# Altium footprint library ESC_PCB_0.PcbLib: 16 footprints
Each footprint in its own frame and in the unit in brackets; x right, y up, seen from the top. Pads: shape width x height; smd on the part's side, far side on the other; paste and mask are expansions set on the pad; w line width, h text height; cw(c..) or ccw(c..) is an arc to the next point about the centre after c.
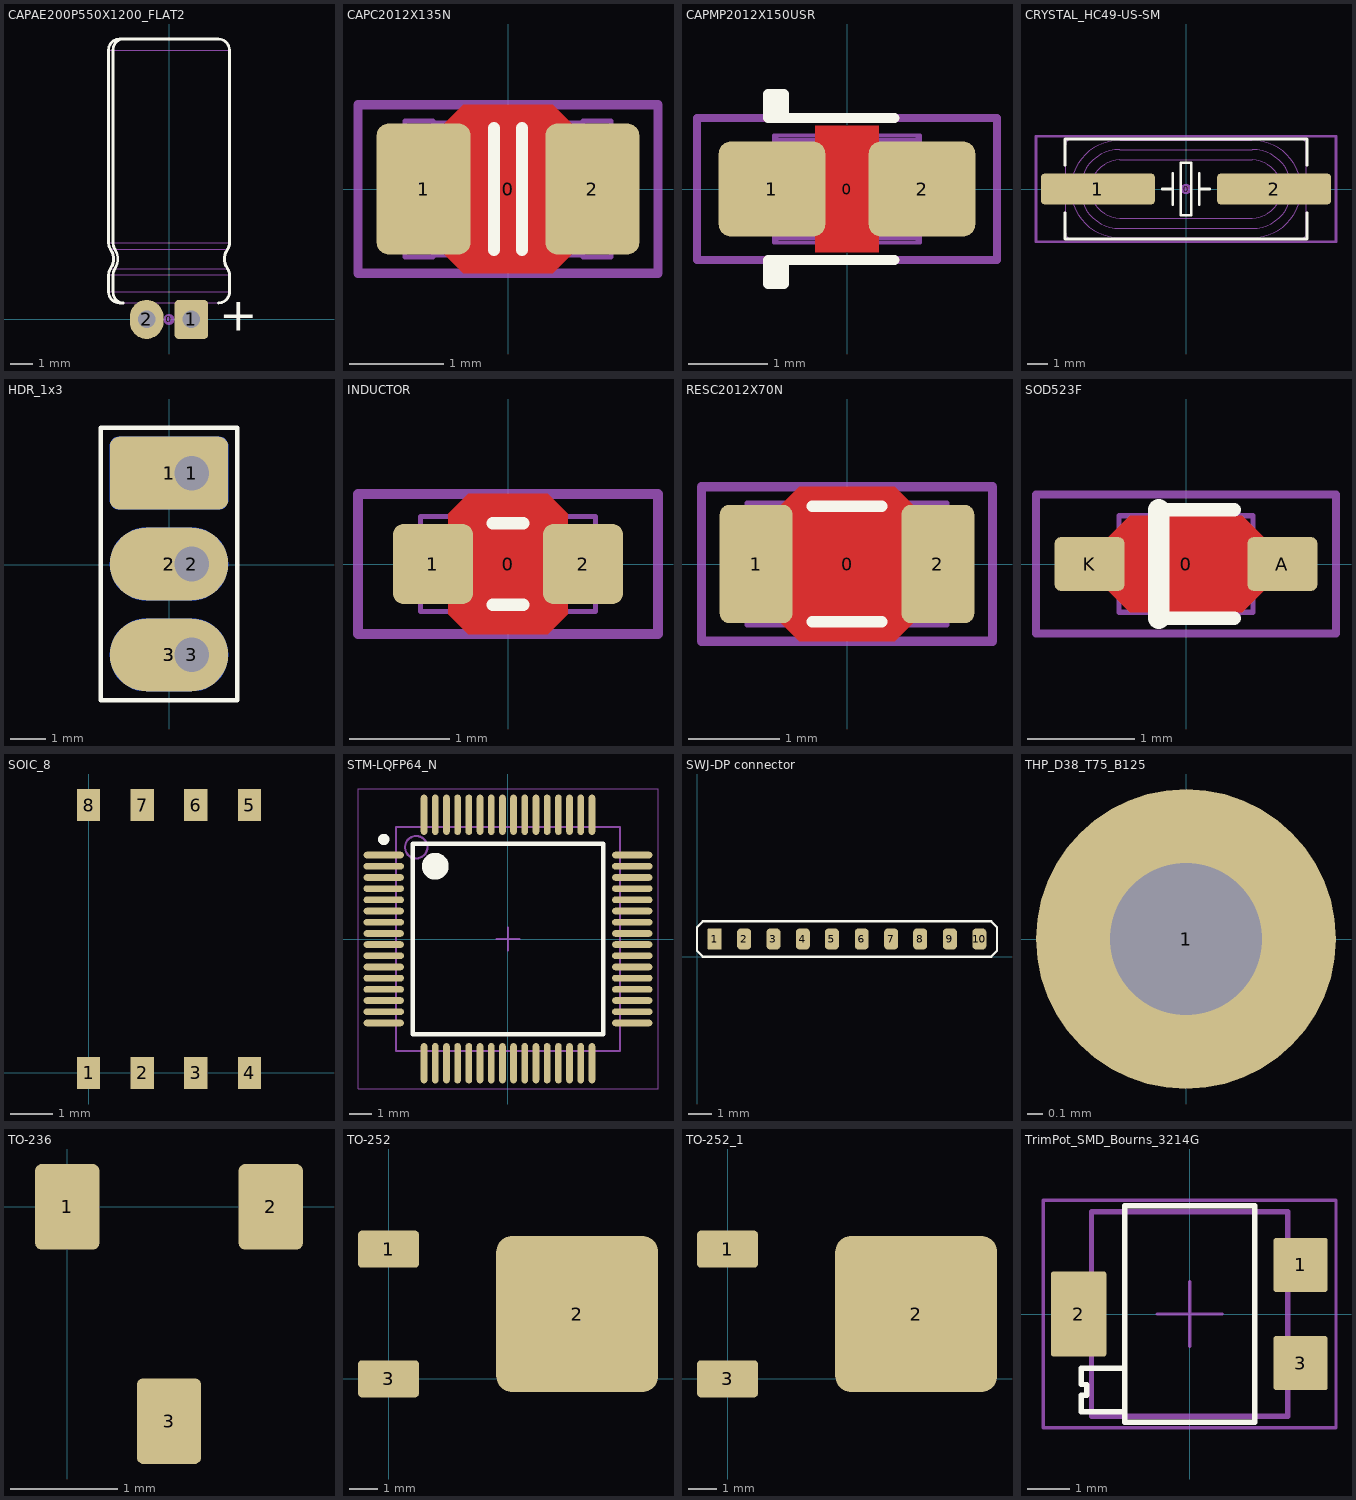
[diagram p0: the footprints below, top view; thin cyan lines are the x and y axes]

## CAPAE200P550X1200_FLAT2 [mil]
pads (3):
  round 20 on Mech15: 0(0,0)
  rrect25% 60x70 hole 31.5: 1(40,0)
  oval 60x70 hole 31.5: 2(-40,0)
Top Overlay:
  lines w5: -82.99,29.57 -88.58,29.57 cw(c-88.58,49.25) -108.27,49.25 -108.27,79.64 cw(c-88.58,79.64) -104.76,90.86 ccw(c-129.92,108.31) -104.76,125.76 cw(c-88.58,136.98) -108.27,136.98 -108.27,482.32 cw(c-88.58,482.32) -88.58,502.01 -82.99,502.01 ; -81.84,29.53 cw(c-81.06,48.53) -100.06,49.25 -100.06,79.64 cw(c-79.2,79.7) -96.81,90.88 ccw(c-124.34,108.31) -96.81,125.74 cw(c-79.2,136.92) -100.06,136.98 -100.06,482.32 cw(c-81.06,483.05) -81.84,502.05 88.58,502.05 cw(c88.58,482.32) 108.31,482.32 108.31,136.98 cw(c88.58,136.98) 104.79,125.74 ccw(c129.92,108.31) 104.79,90.88 cw(c88.58,79.64) 108.31,79.64 108.31,49.25 cw(c88.58,49.25) 88.58,29.53
  text "+" at 90,-20 h60
Mechanical 13:
  lines w1.97: -82.99,29.57 -88.58,29.57 cw(c-88.58,49.25) -108.27,49.25 ; -82.99,502.01 -88.58,502.01 ccw(c-88.58,482.32) -108.27,482.32 ; -49.21,19.68 -29.53,19.68 ; -49.21,29.53 -49.21,0 ccw(c-39.37,0) -29.53,0 -29.53,29.53 ; 29.53,19.68 49.21,19.68 ; 29.53,29.53 29.53,0 ccw(c39.37,0) 49.21,0 49.21,29.53 ; -108.27,49.25 108.31,49.25 ; -108.27,49.25 -108.27,79.64 ; -108.27,79.64 cw(c-88.58,79.64) -104.76,90.86 ; -108.27,79.64 108.31,79.64 ; -108.27,136.98 ccw(c-88.58,136.98) -104.76,125.76 ; -108.27,136.98 108.31,136.98 ; -108.27,136.98 -108.27,482.32 ; -108.27,482.32 108.31,482.32 ; -104.76,90.86 ccw(c-129.92,108.31) -104.76,125.76 ; -104.76,90.86 -96.81,90.88 ; -104.76,125.76 -96.81,125.74 ; -96.81,90.88 ccw(c-124.34,108.31) -96.81,125.74 ; -96.81,90.88 ccw(c-79.2,79.7) -100.06,79.64 -100.06,49.25 ccw(c-81.06,48.53) -81.84,29.53 88.58,29.53 ccw(c88.58,49.25) 108.31,49.25 ; -96.81,90.88 104.79,90.88 ; -96.81,125.74 cw(c-79.2,136.92) -100.06,136.98 -100.06,482.32 cw(c-81.06,483.05) -81.84,502.05 88.58,502.05 cw(c88.58,482.32) 108.31,482.32 ; -96.81,125.74 104.79,125.74 ; 104.79,90.88 cw(c129.92,108.31) 104.79,125.74 ; 104.79,90.88 cw(c88.58,79.64) 108.31,79.64 ; 104.79,125.74 ccw(c88.58,136.98) 108.31,136.98 ; 108.31,49.25 108.31,79.64 ; 108.31,136.98 108.31,482.32
3D body "CAPAE200P550X1200_FLAT2.STEP": height 215.69, standoff -70, extent -107.33,-9.82 107.39,502.05

## CAPC2012X135N [mm]
pads (3):
  round 0.254 on Mech15: 0(0,0)
  rrect25% 1x1.4 smd: 1(-0.9,0) 2(0.9,0)
Top Layer:
  pour cut-out: -0.675,0.7 -0.475,0.9 0.475,0.9 0.675,0.7 0.675,-0.7 0.475,-0.9 -0.475,-0.9 -0.675,-0.7
Top Overlay:
  lines w0.127: -0.15,-0.651 -0.15,0.651 ; 0.15,-0.651 0.15,0.651
Mechanical 13:
  lines w0.05: -0.8,-0.705 0.8,-0.705 ; -0.8,0.705 0.8,0.705 ; -1.1,-0.725 -0.8,-0.725 -0.8,0.725 -1.1,0.725 -1.1,-0.725 ; 0.8,-0.725 0.8,0.725 1.1,0.725 1.1,-0.725 0.8,-0.725
Mechanical 15:
  lines w0.1: -1.6,-0.9 1.6,-0.9 1.6,0.9 -1.6,0.9 -1.6,-0.9
3D body "CAP_0805.STEP": height 1.34, standoff -0.01, extent -1.1,-0.725 1.1,0.725

## CAPMP2012X150USR [mm]
pads (3):
  round 0.254 on Mech15: 0(0,0)
  rrect25% 1.35x1.2 smd: 1(-0.95,0) 2(0.95,0)
Top Layer:
  pour cut-out: -0.4,0.8 0.4,0.8 0.4,-0.8 -0.4,-0.8
Top Overlay:
  lines w0.127: -0.9,-1.2 -0.9,-0.9 ; -0.9,0.9 -0.9,1.2 ; -0.8,-0.9 -0.8,-1.2 -1,-1.2 -1,-0.9 0.6,-0.9 ; -0.8,0.9 -0.8,1.2 -1,1.2 -1,0.9 0.6,0.9
Mechanical 13:
  lines w0.05: -1.025,-0.25 -0.925,-0.25 ; -1.025,0.25 -0.925,0.25 ; -0.925,-0.5 -1.025,-0.5 -1.025,0.5 -0.925,0.5 ; -0.373,-0.623 -0.373,0.623 ; 0.925,-0.5 1.025,-0.5 1.025,0.5 0.925,0.5 ; 0.925,-0.25 1.025,-0.25 ; 0.925,0.25 1.025,0.25 ; -0.925,-0.675 -0.873,-0.623 ; -0.925,-0.675 -0.925,0.675 ; -0.925,-0.675 0.925,-0.675 ; -0.925,0.675 -0.873,0.623 ; -0.925,0.675 0.925,0.675 ; -0.873,-0.623 -0.873,0.623 ; -0.873,-0.623 0.873,-0.623 ; -0.873,0.623 0.873,0.623 ; 0.873,-0.623 0.873,0.623 ; 0.873,-0.623 0.925,-0.675 ; 0.873,0.623 0.925,0.675 ; 0.925,-0.675 0.925,0.675
Mechanical 15:
  lines w0.1: -1.9,-0.9 -1.9,0.9 1.9,0.9 1.9,-0.9 -1.9,-0.9
3D body "CAPMP2012X150N.STEP": height 1.5, standoff 0, extent -1.025,-0.675 1.025,0.675

## CRYSTAL_HC49-US-SM [mm]
pads (3):
  round 0.508 on Mech15: 0(0,0)
  rrect25% 5.5x1.5 smd: 1(-4.25,0) 2(4.25,0)
Top Overlay:
  lines w0.127: -5.842,-1.143 -5.842,-2.413 5.842,-2.413 5.842,-1.143 ; -5.842,1.143 -5.842,2.413 5.842,2.413 5.842,1.143 ; -1.143,0 -0.635,0 ; -0.635,-0.762 -0.635,0.762 ; 0.635,-0.762 0.635,0.762 ; 0.635,0 1.143,0 ; -0.254,-1.27 -0.254,1.27 0.254,1.27 0.254,-1.27 -0.254,-1.27
Mechanical 13:
  lines w0.05: -5.8,-0.45 -6.4,-0.45 -6.4,0.45 -5.8,0.45 ; 5.8,-0.45 6.4,-0.45 6.4,0.45 5.8,0.45 ; -5.8,-2.165 ccw(c-5.55,-2.165) -5.55,-2.415 5.55,-2.415 ccw(c5.55,-2.165) 5.8,-2.165 5.8,2.165 ccw(c5.55,2.165) 5.55,2.415 -5.55,2.415 ccw(c-5.55,2.165) -5.8,2.165 -5.8,-2.165 ; -3.2,-2.35 cw(c-3.2,0) -3.2,2.35 3.2,2.35 cw(c3.2,0) 3.2,-2.35 -3.2,-2.35 ; -3.2,-1.9 cw(c-3.2,0) -3.2,1.9 3.2,1.9 cw(c3.2,0) 3.2,-1.9 -3.2,-1.9 ; -3.2,-1.4 cw(c-3.2,0) -3.2,1.4 3.2,1.4 cw(c3.2,0) 3.2,-1.4 -3.2,-1.4
Mechanical 15:
  lines w0.127: -7.239,-2.54 -7.239,2.54 7.239,2.54 7.239,-2.54 -7.239,-2.54
3D body "Crystal HC49_US-SM.STEP": height 4.29, standoff -0.01, extent -6.4,-2.415 6.4,2.415

## HDR_1x3 [mil]
pads (9):
  rrect25% 130x80 smd: 1(-0.35,100.71)
  rrect25% 130x80 smd far side: 1(-0.35,100.71)
  rrect25% 60x60 hole 38: 1(24.65,100.71)
  oval 130x80 smd: 2(-0.35,0.71) 3(-0.35,-99.29)
  oval 130x80 smd far side: 2(-0.35,0.71) 3(-0.35,-99.29)
  round 60 hole 38: 2(24.65,0.71) 3(24.65,-99.29)
Top Overlay:
  lines w5: -75.35,-149.29 -75.35,150.71 74.65,150.71 74.65,-149.29 -75.35,-149.29

## INDUCTOR [mm]
pads (3):
  round 0.254 on Mech15: 0(0,0)
  rrect25% 0.8x0.8 smd: 1(-0.75,0) 2(0.75,0)
Top Layer:
  pour cut-out: -0.6,0.5 -0.4,0.7 0.4,0.7 0.6,0.5 0.6,-0.5 0.4,-0.7 -0.4,-0.7 -0.6,-0.5
Top Overlay:
  lines w0.127: -0.152,-0.406 0.152,-0.406 ; -0.152,0.406 0.152,0.406
Mechanical 13:
  lines w0.05: -0.475,-0.475 -0.475,0.475 ; 0.475,-0.475 0.475,0.475 ; -0.875,-0.475 -0.875,0.475 0.875,0.475 0.875,-0.475 -0.875,-0.475
Mechanical 15:
  lines w0.1: -1.5,-0.7 1.5,-0.7 1.5,0.7 -1.5,0.7 -1.5,-0.7
3D body "FBC1608X95N.STEP": height 0.95, standoff 0, extent -0.875,-0.475 0.875,0.475

## RESC2012X70N [mm]
pads (3):
  round 0.254 on Mech15: 0(0,0)
  rrect25% 0.8x1.3 smd: 1(-1,0) 2(1,0)
Top Layer:
  pour cut-out: -0.725,0.65 -0.525,0.85 0.525,0.85 0.725,0.65 0.725,-0.65 0.525,-0.85 -0.525,-0.85 -0.725,-0.65
Top Overlay:
  lines w0.127: -0.381,-0.635 0.381,-0.635 ; -0.381,0.635 0.381,0.635
Mechanical 13:
  lines w0.05: 0.6,-0.674 -0.6,-0.674 ; -0.6,-0.674 0.6,-0.674 ; -0.6,-0.675 -1.1,-0.675 -1.1,0.675 -0.6,0.675 -0.6,-0.675 ; 0.6,-0.675 1.1,-0.675 1.1,0.675 0.6,0.675 ; 0.6,-0.675 0.6,0.675 ; 0.6,0.674 -0.6,0.674 0.6,0.674
Mechanical 15:
  lines w0.1: -1.6,-0.85 -1.6,0.85 1.6,0.85 1.6,-0.85 -1.6,-0.85
3D body "RES 0805 (2012 metric).STEP": height 0.69, standoff -0.01, extent -1.1,-0.675 1.1,0.675

## SOD523F [mm]
pads (3):
  round 0.508 on Mech15: 0(0,0)
  rrect20% 0.65x0.5 smd: A(0.9,0) K(-0.9,0)
Top Layer:
  pour cut-out: -0.725,-0.25 -0.725,0.25 -0.525,0.45 0.525,0.45 0.725,0.25 0.725,-0.25 0.525,-0.45 -0.525,-0.45
Top Overlay:
  lines w0.127: -0.254,-0.508 0.45,-0.508 ; -0.254,0.508 0.45,0.508
  lines w0.2: -0.254,-0.508 -0.254,0.508
  text "." at -0.9,-0.625 h0.05
Mechanical 13:
  lines w0.05: -0.625,-0.175 -0.85,-0.175 -0.85,0.175 -0.625,0.175 ; -0.625,-0.175 -0.625,-0.45 0.625,-0.45 0.625,-0.175 ; -0.625,-0.175 -0.625,0.175 ; -0.625,0.175 -0.625,0.45 0.625,0.45 0.625,0.175 ; 0.625,-0.175 0.85,-0.175 0.85,0.175 0.625,0.175 ; 0.625,-0.175 0.625,0.175
  lines w0.127: -0.425,-0.275 -0.425,0.275
Mechanical 15:
  lines w0.076: -1.4,-0.65 -1.4,0.65 1.4,0.65 1.4,-0.65 -1.4,-0.65
3D body "SOD-523F.STEP": height 0.7, standoff 0, extent -0.85,-0.45 0.85,0.45

## SOIC_8 [mm]
pads (8):
  rect 0.55x0.76 smd: 1(0,0) 2(1.27,0) 3(2.54,0) 4(3.81,0) 5(3.81,6.35) 6(2.54,6.35) 7(1.27,6.35) 8(0,6.35)
3D body "M08A.stp": height 1.76, standoff 0, extent -0.597,0.076 4.407,6.274

## STM-LQFP64_N [mm]
pads (64):
  oval 1.8x0.3 smd: 1(-5.55,3.75) 2(-5.55,3.25) 3(-5.55,2.75) 4(-5.55,2.25) 5(-5.55,1.75) 6(-5.55,1.25) 7(-5.55,0.75) 8(-5.55,0.25) 9(-5.55,-0.25) 10(-5.55,-0.75) 11(-5.55,-1.25) 12(-5.55,-1.75) 13(-5.55,-2.25) 14(-5.55,-2.75) 15(-5.55,-3.25) 16(-5.55,-3.75) 33(5.55,-3.75) 34(5.55,-3.25) 35(5.55,-2.75) 36(5.55,-2.25) 37(5.55,-1.75) 38(5.55,-1.25) 39(5.55,-0.75) 40(5.55,-0.25) 41(5.55,0.25) 42(5.55,0.75) 43(5.55,1.25) 44(5.55,1.75) 45(5.55,2.25) 46(5.55,2.75) 47(5.55,3.25) 48(5.55,3.75)
  oval 0.3x1.8 smd: 17(-3.75,-5.55) 18(-3.25,-5.55) 19(-2.75,-5.55) 20(-2.25,-5.55) 21(-1.75,-5.55) 22(-1.25,-5.55) 23(-0.75,-5.55) 24(-0.25,-5.55) 25(0.25,-5.55) 26(0.75,-5.55) 27(1.25,-5.55) 28(1.75,-5.55) 29(2.25,-5.55) 30(2.75,-5.55) 31(3.25,-5.55) 32(3.75,-5.55) 49(3.75,5.55) 50(3.25,5.55) 51(2.75,5.55) 52(2.25,5.55) 53(1.75,5.55) 54(1.25,5.55) 55(0.75,5.55) 56(0.25,5.55) 57(-0.25,5.55) 58(-0.75,5.55) 59(-1.25,5.55) 60(-1.75,5.55) 61(-2.25,5.55) 62(-2.75,5.55) 63(-3.25,5.55) 64(-3.75,5.55)
Top Overlay:
  circle w0.25: c-5.55,4.45 r0.125
  circle w0.6: c-3.25,3.25 r0.3
  lines w0.2: -4.25,-4.25 -4.25,4.25 4.25,4.25 4.25,-4.25 -4.25,-4.25
Mechanical 13:
  circle w0.1: c-4.1,4.1 r0.5
  lines w0.1: -5,-5 -5,5 5,5 5,-5 -5,-5
Mechanical 15:
  lines w0.05: -6.7,-6.7 -6.7,6.7 6.7,6.7 6.7,-6.7 -6.7,-6.7
  lines w0.1: -0.5,0 0.5,0 ; 0,-0.5 0,0.5
3D body: height 1.6, standoff 0.05, extent -5,-5 5,5

## SWJ-DP connector [mm]
pads (10):
  rrect8% 0.6x0.9 smd: 1(0.762,0.762)
  rrect50% 0.6x0.9 smd: 2(2.032,0.762) 3(3.302,0.762) 4(4.572,0.762) 5(5.826,0.762) 6(7.112,0.762) 7(8.382,0.762) 8(9.636,0.762) 9(10.922,0.762) 10(12.192,0.762)
Top Overlay:
  lines w0.1: 0,0.254 0,1.27 0.254,1.524 12.7,1.524 12.954,1.27 12.954,0.254 12.7,0 0.254,0 0,0.254

## THP_D38_T75_B125 [mil]
pads (1):
  round 75 / inner round 75 / far side round 125 hole 38: 1(0,0)

## TO-236 [mm]
pads (3):
  rrect20% 0.6x0.8 smd: 1(0,0) 2(1.9,0) 3(0.95,-2)
3D body "SOT95P240X110-3M[SOT23-3_TO-236AB].STEP": height 1.11, standoff 0.01, extent -0.55,-2.25 2.45,0.25

## TO-252 [mm]
pads (3):
  rrect20% 2.15x1.3 smd: 1(0,4.57) 3(0,0)
  rrect20% 5.7x5.5 smd: 2(6.645,2.285)
3D body "TD03B-L.stp": height 2.4, standoff -0.04, extent -0.343,-1.08 7.419,5.652

## TO-252_1 [mm]
pads (3):
  rrect20% 2.15x1.3 smd: 1(0,4.57) 3(0,0)
  rrect20% 5.7x5.5 smd: 2(6.645,2.285)
3D body "DPAK_TO-252AA.STEP": height 2.41, standoff 0.01, extent -0.891,-1.081 9.209,5.653

## TrimPot_SMD_Bourns_3214G [mm]
pads (3):
  rrect10% 1.27x1.27 smd: 1(2.6,1.15) 3(2.6,-1.15)
  rrect10% 1.3x2 smd: 2(-2.6,0)
Top Overlay:
  lines w0.127: -1.524,-2.286 -2.54,-2.286 -2.54,-1.905 -2.413,-1.905 -2.413,-1.651 -2.54,-1.651 -2.54,-1.27 -1.524,-1.27 ; -1.524,-2.54 -1.524,2.54 1.524,2.54 1.524,-2.54 -1.524,-2.54
Mechanical 13:
  lines w0.127: -2.3,-2.4 2.3,-2.4 2.3,2.4 -2.3,2.4 -2.3,-2.4
Mechanical 15:
  lines w0.076: -0.762,0 0.762,0 ; 0,-0.762 0,0.762 ; -3.429,-2.667 3.429,-2.667 3.429,2.667 -3.429,2.667 -3.429,-2.667
3D body: height 3.9, standoff 3.9, extent -2.3,-2.4 2.3,2.4
3D body: height 0.2, standoff 0, extent 1.6,-1.6 3,-0.7
3D body: height 0.2, standoff 0, extent 1.6,0.7 3,1.6
3D body: height 0.2, standoff 0, extent -3,-0.65 -1.6,0.65
3D body "Trimpot 3214G.stp": height 3.9, standoff 0.2, extent -2.3,-2.4 2.3,2.4